# Altium footprint library 687 3xx 124 422.PcbLib: 17 footprints (part 1 of 2)
Each footprint in its own frame and in the unit in brackets; x right, y up, seen from the top. Pads: shape width x height; smd on the part's side, far side on the other; paste and mask are expansions set on the pad; w line width, h text height; cw(c..) or ccw(c..) is an arc to the next point about the centre after c.
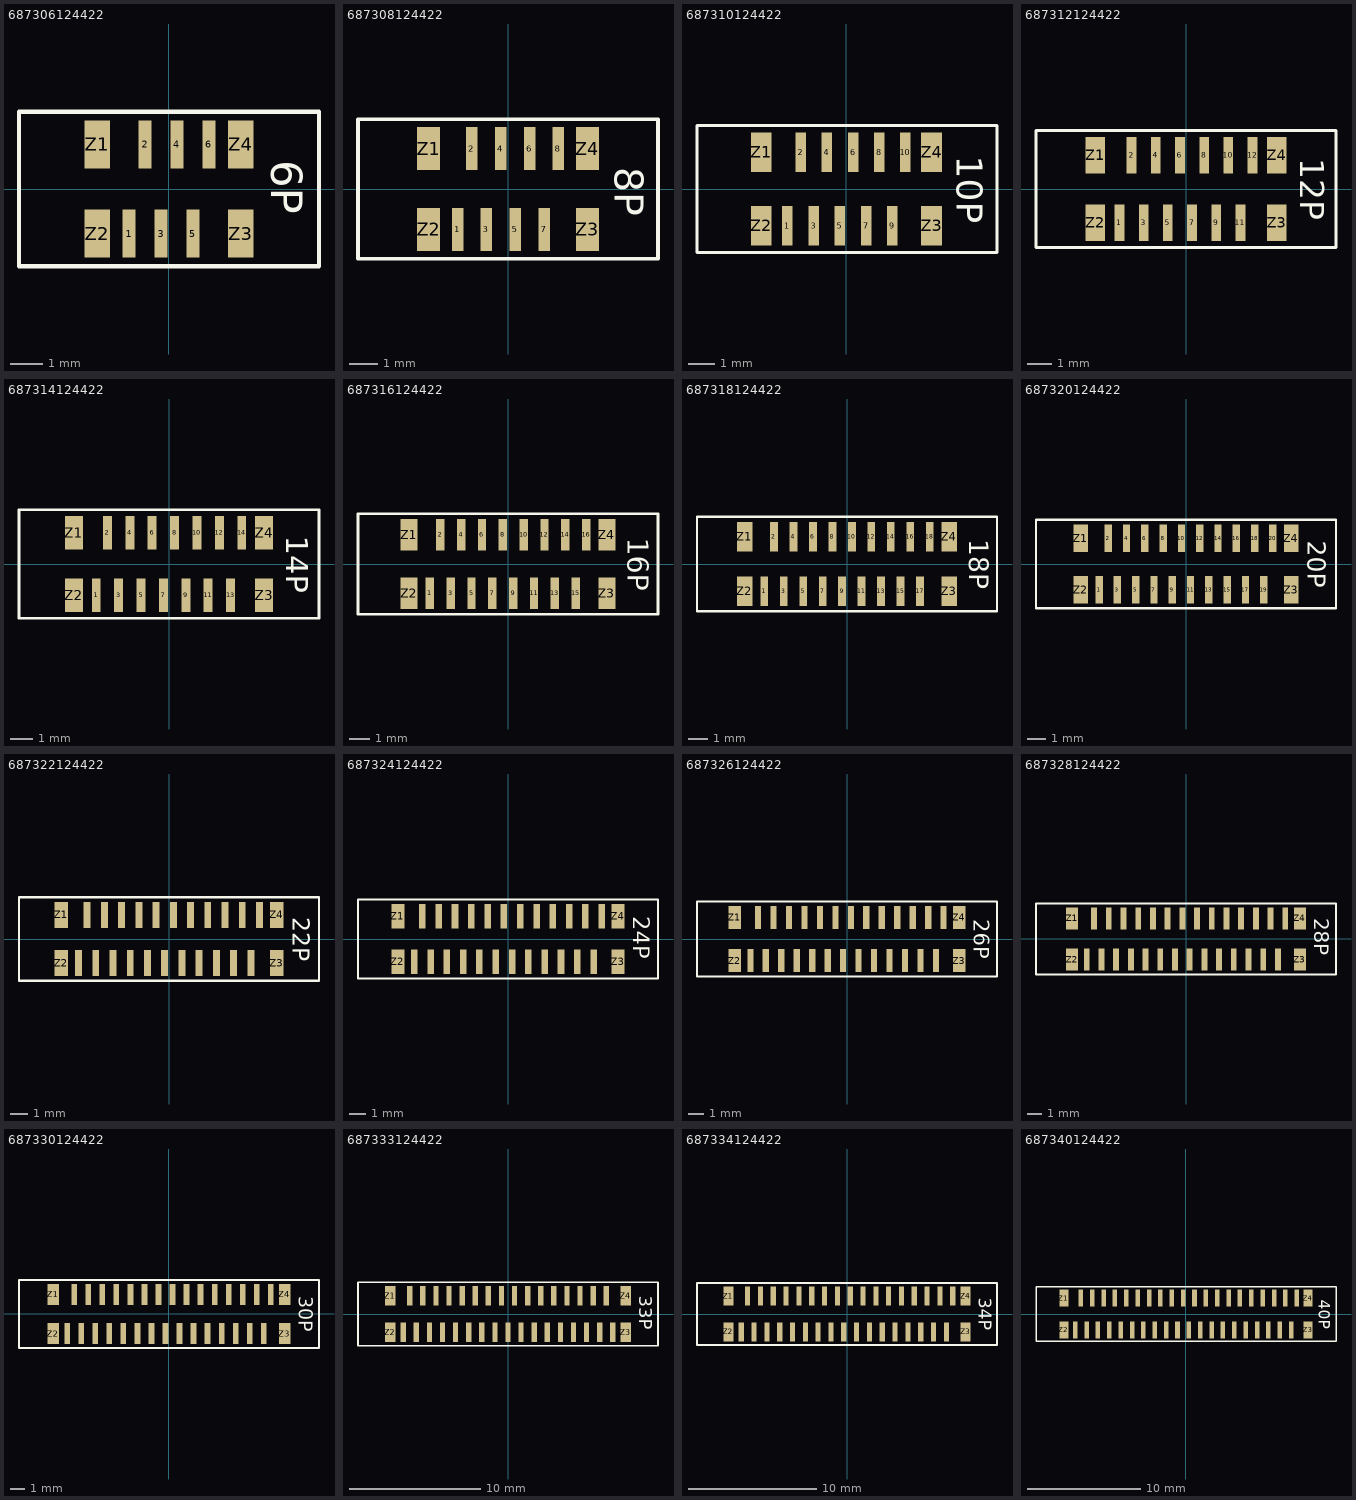
[diagram p0: the footprints below, top view; thin cyan lines are the x and y axes]

## 687306124422 [mm] "6 pins T&R with Cap"
height 4.3
pads (10):
  rect 0.4x1.5 smd: 1(-1.25,-1.4) 2(-0.75,1.4) 3(-0.25,-1.4) 4(0.25,1.4) 5(0.75,-1.4) 6(1.25,1.4)
  rect 0.8x1.5 smd: Z1(-2.25,1.4) Z2(-2.25,-1.4) Z3(2.25,-1.4) Z4(2.25,1.4)
Top Overlay:
  lines w0.127: -4.7,-2.42 -4.7,2.42 4.7,2.42 4.7,-2.42 -4.7,-2.42
  text "6P" at 3.2,0.9 h1
3D body: height 4.31, standoff 0.01, extent -4.7,-1.75 4.7,1.779

## 687308124422 [mm] "8 pins T&R with Cap"
height 4.3
pads (12):
  rect 0.4x1.5 smd: 1(-1.75,-1.4) 2(-1.25,1.4) 3(-0.75,-1.4) 4(-0.25,1.4) 5(0.25,-1.4) 6(0.75,1.4) 7(1.25,-1.4) 8(1.75,1.4)
  rect 0.8x1.5 smd: Z1(-2.75,1.4) Z2(-2.75,-1.4) Z3(2.75,-1.4) Z4(2.75,1.4)
Top Overlay:
  lines w0.127: -5.2,-2.42 -5.2,2.42 5.2,2.42 5.2,-2.42 -5.2,-2.42
  text "8P" at 3.695,0.762 h1
3D body: height 4.31, standoff 0.01, extent -5.2,-1.75 5.2,1.779

## 687310124422 [mm] "10 pins T&R with Cap"
height 4.3
pads (14):
  rect 0.4x1.5 smd: 1(-2.25,-1.4) 2(-1.75,1.4) 3(-1.25,-1.4) 4(-0.75,1.4) 5(-0.25,-1.4) 6(0.25,1.4) 7(0.75,-1.4) 8(1.25,1.4) 9(1.75,-1.4) 10(2.25,1.4)
  rect 0.8x1.5 smd: Z1(-3.25,1.4) Z2(-3.25,-1.4) Z3(3.25,-1.4) Z4(3.25,1.4)
Top Overlay:
  lines w0.127: -5.7,-2.42 -5.7,2.42 5.74,2.42 5.74,-2.42 -5.7,-2.42
  text "10P" at 4.211,1.27 h1
3D body: height 4.31, standoff 0.01, extent -5.7,-1.75 5.7,1.779

## 687312124422 [mm] "12 pins T&R with Cap"
height 4.3
pads (16):
  rect 0.4x1.5 smd: 1(-2.75,-1.4) 2(-2.25,1.4) 3(-1.75,-1.4) 4(-1.25,1.4) 5(-0.75,-1.4) 6(-0.25,1.4) 7(0.25,-1.4) 8(0.75,1.4) 9(1.25,-1.4) 10(1.75,1.4) 11(2.25,-1.4) 12(2.75,1.4)
  rect 0.8x1.5 smd: Z1(-3.75,1.4) Z2(-3.75,-1.4) Z3(3.75,-1.4) Z4(3.75,1.4)
Top Overlay:
  lines w0.127: -6.2,-2.42 6.2,-2.42 6.2,2.42 -6.2,2.42 -6.2,-2.42
  text "12P" at 4.727,1.27 h1
3D body: height 4.31, standoff 0.01, extent -6.2,-1.75 6.2,1.779

## 687314124422 [mm] "14 pins T&R with Cap"
height 4.3
pads (18):
  rect 0.4x1.5 smd: 1(-3.25,-1.4) 2(-2.75,1.4) 3(-2.25,-1.4) 4(-1.75,1.4) 5(-1.25,-1.4) 6(-0.75,1.4) 7(-0.25,-1.4) 8(0.25,1.4) 9(0.75,-1.4) 10(1.25,1.4) 11(1.75,-1.4) 12(2.25,1.4) 13(2.75,-1.4) 14(3.25,1.4)
  rect 0.8x1.5 smd: Z1(-4.25,1.4) Z2(-4.25,-1.4) Z3(4.25,-1.4) Z4(4.25,1.4)
Top Overlay:
  lines w0.127: -6.7,-2.42 -6.7,2.42 6.7,2.42 6.7,-2.42 -6.7,-2.42
  text "14P" at 5.243,1.27 h1
3D body: height 4.31, standoff 0.01, extent -6.7,-1.75 6.7,1.779

## 687316124422 [mm] "16 pins T&R with Cap"
height 4.3
pads (20):
  rect 0.4x1.5 smd: 1(-3.75,-1.4) 2(-3.25,1.4) 3(-2.75,-1.4) 4(-2.25,1.4) 5(-1.75,-1.4) 6(-1.25,1.4) 7(-0.75,-1.4) 8(-0.25,1.4) 9(0.25,-1.4) 10(0.75,1.4) 11(1.25,-1.4) 12(1.75,1.4) 13(2.25,-1.4) 14(2.75,1.4) 15(3.25,-1.4) 16(3.75,1.4)
  rect 0.8x1.5 smd: Z1(-4.75,1.4) Z2(-4.75,-1.4) Z3(4.75,-1.4) Z4(4.75,1.4)
Top Overlay:
  lines w0.127: -7.2,-2.42 -7.2,2.42 7.2,2.42 7.2,-2.42 -7.2,-2.42
  text "16P" at 5.759,1.27 h1
3D body: height 4.31, standoff 0.01, extent -7.2,-1.75 7.2,1.779

## 687318124422 [mm] "18 pins T&R with Cap"
height 4.3
pads (22):
  rect 0.4x1.5 smd: 1(-4.25,-1.4) 2(-3.75,1.4) 3(-3.25,-1.4) 4(-2.75,1.4) 5(-2.25,-1.4) 6(-1.75,1.4) 7(-1.25,-1.4) 8(-0.75,1.4) 9(-0.25,-1.4) 10(0.25,1.4) 11(0.75,-1.4) 12(1.25,1.4) 13(1.75,-1.4) 14(2.25,1.4) 15(2.75,-1.4) 16(3.25,1.4) 17(3.75,-1.4) 18(4.25,1.4)
  rect 0.8x1.5 smd: Z1(-5.25,1.4) Z2(-5.25,-1.4) Z3(5.25,-1.4) Z4(5.25,1.4)
Top Overlay:
  lines w0.127: -7.7,-2.42 7.7,-2.42 7.7,2.42 -7.7,2.42 -7.7,-2.42
  text "18P" at 6.275,1.27 h1
3D body: height 4.31, standoff 0.01, extent -7.7,-1.75 7.7,1.779

## 687320124422 [mm] "20 pins T&R with Cap"
height 4.3
pads (24):
  rect 0.4x1.5 smd: 1(-4.75,-1.4) 2(-4.25,1.4) 3(-3.75,-1.4) 4(-3.25,1.4) 5(-2.75,-1.4) 6(-2.25,1.4) 7(-1.75,-1.4) 8(-1.25,1.4) 9(-0.75,-1.4) 10(-0.25,1.4) 11(0.25,-1.4) 12(0.75,1.4) 13(1.25,-1.4) 14(1.75,1.4) 15(2.25,-1.4) 16(2.75,1.4) 17(3.25,-1.4) 18(3.75,1.4) 19(4.25,-1.4) 20(4.75,1.4)
  rect 0.8x1.5 smd: Z1(-5.75,1.4) Z2(-5.75,-1.4) Z3(5.75,-1.4) Z4(5.75,1.4)
Top Overlay:
  lines w0.127: -8.2,-2.42 8.2,-2.42 8.2,2.42 -8.2,2.42 -8.2,-2.42
  text "20P" at 6.664,1.27 h1
3D body: height 4.31, standoff 0.01, extent -8.2,-1.75 8.2,1.779

## 687322124422 [mm] "22 pins T&R with Cap"
height 4.3
pads (26):
  rect 0.4x1.5 smd: 1(-5.25,-1.4) 2(-4.75,1.4) 3(-4.25,-1.4) 4(-3.75,1.4) 5(-3.25,-1.4) 6(-2.75,1.4) 7(-2.25,-1.4) 8(-1.75,1.4) 9(-1.25,-1.4) 10(-0.75,1.4) 11(-0.25,-1.4) 12(0.25,1.4) 13(0.75,-1.4) 14(1.25,1.4) 15(1.75,-1.4) 16(2.25,1.4) 17(2.75,-1.4) 18(3.25,1.4) 19(3.75,-1.4) 20(4.25,1.4) 21(4.75,-1.4) 22(5.25,1.4)
  rect 0.8x1.5 smd: Z1(-6.25,1.4) Z2(-6.25,-1.4) Z3(6.25,-1.4) Z4(6.25,1.4)
Top Overlay:
  lines w0.127: -8.7,-2.42 -8.7,2.42 8.7,2.42 8.7,-2.42 -8.7,-2.42
  text "22P" at 7.18,1.27 h1
3D body: height 4.31, standoff 0.01, extent -8.7,-1.75 8.7,1.779

## 687324124422 [mm] "24 pins T&R with Cap"
height 4.3
pads (28):
  rect 0.4x1.5 smd: 1(-5.75,-1.4) 2(-5.25,1.4) 3(-4.75,-1.4) 4(-4.25,1.4) 5(-3.75,-1.4) 6(-3.25,1.4) 7(-2.75,-1.4) 8(-2.25,1.4) 9(-1.75,-1.4) 10(-1.25,1.4) 11(-0.75,-1.4) 12(-0.25,1.4) 13(0.25,-1.4) 14(0.75,1.4) 15(1.25,-1.4) 16(1.75,1.4) 17(2.25,-1.4) 18(2.75,1.4) 19(3.25,-1.4) 20(3.75,1.4) 21(4.25,-1.4) 22(4.75,1.4) 23(5.25,-1.4) 24(5.75,1.4)
  rect 0.8x1.5 smd: Z1(-6.75,1.4) Z2(-6.75,-1.4) Z3(6.75,-1.4) Z4(6.75,1.4)
Top Overlay:
  lines w0.127: -9.2,-2.42 9.2,-2.42 9.2,2.42 -9.2,2.42 -9.2,-2.42
  text "24P" at 7.696,1.397 h1
3D body: height 4.31, standoff 0.01, extent -9.2,-1.75 9.2,1.779

## 687326124422 [mm] "26 pins T&R with Cap"
height 4.3
pads (30):
  rect 0.4x1.5 smd: 1(-6.25,-1.4) 2(-5.75,1.4) 3(-5.25,-1.4) 4(-4.75,1.4) 5(-4.25,-1.4) 6(-3.75,1.4) 7(-3.25,-1.4) 8(-2.75,1.4) 9(-2.25,-1.4) 10(-1.75,1.4) 11(-1.25,-1.4) 12(-0.75,1.4) 13(-0.25,-1.4) 14(0.25,1.4) 15(0.75,-1.4) 16(1.25,1.4) 17(1.75,-1.4) 18(2.25,1.4) 19(2.75,-1.4) 20(3.25,1.4) 21(3.75,-1.4) 22(4.25,1.4) 23(4.75,-1.4) 24(5.25,1.4) 25(5.75,-1.4) 26(6.25,1.4)
  rect 0.8x1.5 smd: Z1(-7.25,1.4) Z2(-7.25,-1.4) Z3(7.25,-1.4) Z4(7.25,1.4)
Top Overlay:
  lines w0.127: -9.7,-2.42 -9.7,2.42 9.7,2.42 9.7,-2.42 -9.7,-2.42
  text "26P" at 8.212,1.27 h1
3D body: height 4.31, standoff 0.01, extent -9.7,-1.75 9.7,1.779

## 687328124422 [mm] "28 pins T&R with Cap"
height 4.3
pads (32):
  rect 0.4x1.5 smd: 1(-6.75,-1.4) 2(-6.25,1.4) 3(-5.75,-1.4) 4(-5.25,1.4) 5(-4.75,-1.4) 6(-4.25,1.4) 7(-3.75,-1.4) 8(-3.25,1.4) 9(-2.75,-1.4) 10(-2.25,1.4) 11(-1.75,-1.4) 12(-1.25,1.4) 13(-0.75,-1.4) 14(-0.25,1.4) 15(0.25,-1.4) 16(0.75,1.4) 17(1.25,-1.4) 18(1.75,1.4) 19(2.25,-1.4) 20(2.75,1.4) 21(3.25,-1.4) 22(3.75,1.4) 23(4.25,-1.4) 24(4.75,1.4) 25(5.25,-1.4) 26(5.75,1.4) 27(6.25,-1.4) 28(6.75,1.4)
  rect 0.8x1.5 smd: Z1(-7.75,1.4) Z2(-7.75,-1.4) Z3(7.75,-1.4) Z4(7.75,1.4)
Top Overlay:
  lines w0.127: -10.2,-2.42 10.2,-2.42 10.2,2.42 -10.2,2.42 -10.2,-2.42
  text "28P" at 8.728,1.397 h1
3D body: height 4.31, standoff 0.01, extent -10.2,-1.75 10.2,1.779

## 687330124422 [mm] "30 pins T&R with Cap"
height 4.3
pads (34):
  rect 0.4x1.5 smd: 1(-7.25,-1.4) 2(-6.75,1.4) 3(-6.25,-1.4) 4(-5.75,1.4) 5(-5.25,-1.4) 6(-4.75,1.4) 7(-4.25,-1.4) 8(-3.75,1.4) 9(-3.25,-1.4) 10(-2.75,1.4) 11(-2.25,-1.4) 12(-1.75,1.4) 13(-1.25,-1.4) 14(-0.75,1.4) 15(-0.25,-1.4) 16(0.25,1.4) 17(0.75,-1.4) 18(1.25,1.4) 19(1.75,-1.4) 20(2.25,1.4) 21(2.75,-1.4) 22(3.25,1.4) 23(3.75,-1.4) 24(4.25,1.4) 25(4.75,-1.4) 26(5.25,1.4) 27(5.75,-1.4) 28(6.25,1.4) 29(6.75,-1.4) 30(7.25,1.4)
  rect 0.8x1.5 smd: Z1(-8.25,1.4) Z2(-8.25,-1.4) Z3(8.25,-1.4) Z4(8.25,1.4)
Top Overlay:
  lines w0.127: -10.7,-2.42 10.7,-2.42 10.7,2.42 -10.7,2.42 -10.7,-2.42
  text "30P" at 9.244,1.27 h1
3D body: height 4.31, standoff 0.01, extent -10.7,-1.75 10.7,1.779

## 687333124422 [mm] "33 pins T&R with Cap"
height 4.3
pads (37):
  rect 0.4x1.5 smd: 1(-8,-1.4) 2(-7.5,1.4) 3(-7,-1.4) 4(-6.5,1.4) 5(-6,-1.4) 6(-5.5,1.4) 7(-5,-1.4) 8(-4.5,1.4) 9(-4,-1.4) 10(-3.5,1.4) 11(-3,-1.4) 12(-2.5,1.4) 13(-2,-1.4) 14(-1.5,1.4) 15(-1,-1.4) 16(-0.5,1.4) 17(0,-1.4) 18(0.5,1.4) 19(1,-1.4) 20(1.5,1.4) 21(2,-1.4) 22(2.5,1.4) 23(3,-1.4) 24(3.5,1.4) 25(4,-1.4) 26(4.5,1.4) 27(5,-1.4) 28(5.5,1.4) 29(6,-1.4) 30(6.5,1.4) 31(7,-1.4) 32(7.5,1.4) 33(8,-1.4)
  rect 0.8x1.5 smd: Z1(-9,1.4) Z2(-9,-1.4) Z3(9,-1.4) Z4(9,1.4)
Top Overlay:
  lines w0.127: -11.45,-2.42 11.45,-2.42 11.45,2.42 -11.45,2.42 -11.45,-2.42
  text "33P" at 10,1.4 h1
3D body: height 4.31, standoff 0.01, extent -11.45,-1.764 11.45,1.764

## 687334124422 [mm] "34 pins T&R with Cap"
height 4.3
pads (38):
  rect 0.4x1.5 smd: 1(-8.25,-1.4) 2(-7.75,1.4) 3(-7.25,-1.4) 4(-6.75,1.4) 5(-6.25,-1.4) 6(-5.75,1.4) 7(-5.25,-1.4) 8(-4.75,1.4) 9(-4.25,-1.4) 10(-3.75,1.4) 11(-3.25,-1.4) 12(-2.75,1.4) 13(-2.25,-1.4) 14(-1.75,1.4) 15(-1.25,-1.4) 16(-0.75,1.4) 17(-0.25,-1.4) 18(0.25,1.4) 19(0.75,-1.4) 20(1.25,1.4) 21(1.75,-1.4) 22(2.25,1.4) 23(2.75,-1.4) 24(3.25,1.4) 25(3.75,-1.4) 26(4.25,1.4) 27(4.75,-1.4) 28(5.25,1.4) 29(5.75,-1.4) 30(6.25,1.4) 31(6.75,-1.4) 32(7.25,1.4) 33(7.75,-1.4) 34(8.25,1.4)
  rect 0.8x1.5 smd: Z1(-9.25,1.4) Z2(-9.25,-1.4) Z3(9.25,-1.4) Z4(9.25,1.4)
Top Overlay:
  lines w0.127: -11.7,-2.42 11.7,-2.42 11.7,2.42 -11.7,2.42 -11.7,-2.42
  text "34P" at 10.276,1.27 h1
3D body: height 4.31, standoff 0.01, extent -11.7,-1.75 11.7,1.779

## 687340124422 [mm] "40 pins T&R with Cap"
height 4.3
pads (44):
  rect 0.4x1.5 smd: 1(-9.75,-1.4) 2(-9.25,1.4) 3(-8.75,-1.4) 4(-8.25,1.4) 5(-7.75,-1.4) 6(-7.25,1.4) 7(-6.75,-1.4) 8(-6.25,1.4) 9(-5.75,-1.4) 10(-5.25,1.4) 11(-4.75,-1.4) 12(-4.25,1.4) 13(-3.75,-1.4) 14(-3.25,1.4) 15(-2.75,-1.4) 16(-2.25,1.4) 17(-1.75,-1.4) 18(-1.25,1.4) 19(-0.75,-1.4) 20(-0.25,1.4) 21(0.25,-1.4) 22(0.75,1.4) 23(1.25,-1.4) 24(1.75,1.4) 25(2.25,-1.4) 26(2.75,1.4) 27(3.25,-1.4) 28(3.75,1.4) 29(4.25,-1.4) 30(4.75,1.4) 31(5.25,-1.4) 32(5.75,1.4) 33(6.25,-1.4) 34(6.75,1.4) 35(7.25,-1.4) 36(7.75,1.4) 37(8.25,-1.4) 38(8.75,1.4) 39(9.25,-1.4) 40(9.75,1.4)
  rect 0.8x1.5 smd: Z1(-10.75,1.4) Z2(-10.75,-1.4) Z3(10.75,-1.4) Z4(10.75,1.4)
Top Overlay:
  lines w0.127: -13.2,-2.42 -13.2,2.42 13.2,2.42 13.2,-2.42 -13.2,-2.42
  text "40P" at 11.697,1.27 h1
3D body: height 4.31, standoff 0.01, extent -13.2,-1.75 13.2,1.779